# Altium schematic symbol library ECX-31B.SchLib: 1 symbol
Pins are listed as number, name and electrical type; pins without a type are passive.

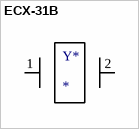
[diagram p0: symbol ECX-31B]

## ECX-31B
designator Y*
32.768 KHz
footprint ECX-31B (CRYSTAL 32.768KHZ 12.5PF SMD)
pins: 1, 2